# EAGLE library part TEENSY_3.6 (library Gucci_ControlBoard)
K66 Teensy 3.6 without Headers Kinetis ARM® Cortex®-M4 MCU 32-Bit Embedded Evaluation Board DigiKey <https://www.digikey.com/product-detail/en/sparkfun-electronics/DEV-14057/1568-1442-ND/6235190>
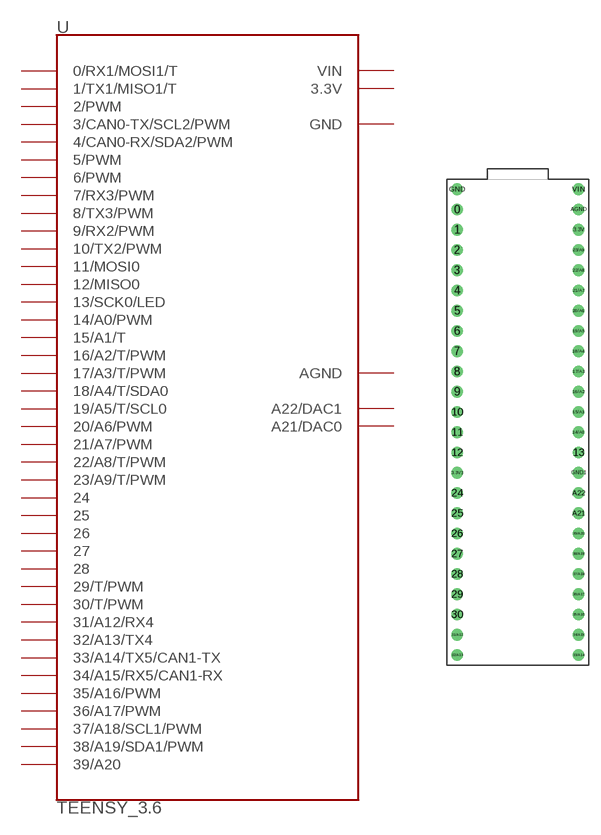
[diagram p1: symbol with the pads of TEENSY_3.6; footprint TEENSY_3.6]

Designator prefix U

## TEENSY_3.6 (DKPN: 1568-1442-ND)  [TEENSY_3.6]
0  0/RX1/MOSI1/T  pas
1  1/TX1/MISO1/T  pas
2  2/PWM  pas
3  3/CAN0-TX/SCL2/PWM  pas
3.3V  3.3V  pas
3.3V3  3.3V  pas
4  4/CAN0-RX/SDA2/PWM  pas
5  5/PWM  pas
6  6/PWM  pas
7  7/RX3/PWM  pas
8  8/TX3/PWM  pas
9  9/RX2/PWM  pas
10  10/TX2/PWM  pas
11  11/MOSI0  pas
12  12/MISO0  pas
13  13/SCK0/LED  pas
14/A0  14/A0/PWM  pas
15/A1  15/A1/T  pas
16/A2  16/A2/T/PWM  pas
17/A3  17/A3/T/PWM  pas
18/A4  18/A4/T/SDA0  pas
19/A5  19/A5/T/SCL0  pas
20/A6  20/A6/PWM  pas
21/A7  21/A7/PWM  pas
22/A8  22/A8/T/PWM  pas
23/A9  23/A9/T/PWM  pas
24  24  pas
25  25  pas
26  26  pas
27  27  pas
28  28  pas
29  29/T/PWM  pas
30  30/T/PWM  pas
31/A12  31/A12/RX4  pas
32/A13  32/A13/TX4  pas
33/A14  33/A14/TX5/CAN1-TX  pas
34/A15  34/A15/RX5/CAN1-RX  pas
35/A16  35/A16/PWM  pas
36/A17  36/A17/PWM  pas
37/A18  37/A18/SCL1/PWM  pas
38/A19  38/A19/SDA1/PWM  pas
39/A20  39/A20  pas
A21  A21/DAC0  pas
A22  A22/DAC1  pas
AGND  AGND  pas
GND  GND  pas
GND1  GND  pas
VIN  VIN  pas

## Footprint TEENSY_3.6 (pad centres in mm)
drill 0.965: 0 -7.62,25.4; 1 -7.62,22.86; 2 -7.62,20.32; 3 -7.62,17.78; 3.3V 7.62,22.86; 3.3V3 -7.62,-7.62; 4 -7.62,15.24; 5 -7.62,12.7; 6 -7.62,10.16; 7 -7.62,7.62; 8 -7.62,5.08; 9 -7.62,2.54; 10 -7.62,0; 11 -7.62,-2.54; 12 -7.62,-5.08; 13 7.62,-5.08; 14/A0 7.62,-2.54; 15/A1 7.62,0; 16/A2 7.62,2.54; 17/A3 7.62,5.08; 18/A4 7.62,7.62; 19/A5 7.62,10.16; 20/A6 7.62,12.7; 21/A7 7.62,15.24; 22/A8 7.62,17.78; 23/A9 7.62,20.32; 24 -7.62,-10.16; 25 -7.62,-12.7; 26 -7.62,-15.24; 27 -7.62,-17.78; 28 -7.62,-20.32; 29 -7.62,-22.86; 30 -7.62,-25.4; 31/A12 -7.62,-27.94; 32/A13 -7.62,-30.48; 33/A14 7.62,-30.48; 34/A15 7.62,-27.94; 35/A16 7.62,-25.4; 36/A17 7.62,-22.86; 37/A18 7.62,-20.32; 38/A19 7.62,-17.78; 39/A20 7.62,-15.24; A21 7.62,-12.7; A22 7.62,-10.16; AGND 7.62,25.4; GND -7.62,27.94; GND1 7.62,-7.62; VIN 7.62,27.94